# Altium footprint library 14-TSSOP.PcbLib: 4 footprints
Each footprint in its own frame and in the unit in brackets; x right, y up, seen from the top. Pads: shape width x height; smd on the part's side, far side on the other; paste and mask are expansions set on the pad; w line width, h text height; cw(c..) or ccw(c..) is an arc to the next point about the centre after c.
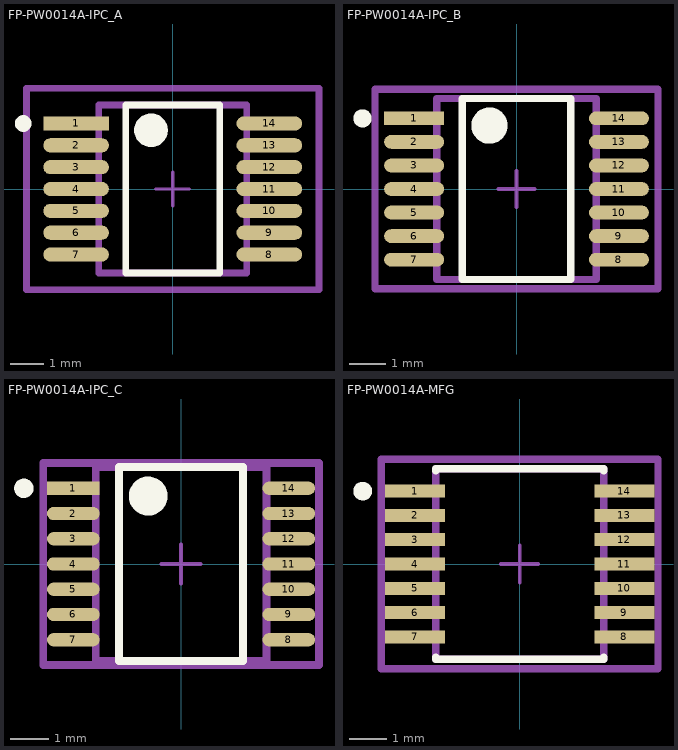
[diagram p0: the footprints below, top view; thin cyan lines are the x and y axes]

## FP-PW0014A-IPC_A [mm]
pads (14):
  rect 1.955x0.421 smd paste+0 mask+0: 1(-2.875,1.95)
  rrect100% 1.955x0.421 smd paste+0 mask+0: 2(-2.875,1.3) 3(-2.875,0.65) 4(-2.875,0) 5(-2.875,-0.65) 6(-2.875,-1.3) 7(-2.875,-1.95) 8(2.875,-1.95) 9(2.875,-1.3) 10(2.875,-0.65) 11(2.875,0) 12(2.875,0.65) 13(2.875,1.3) 14(2.875,1.95)
Top Overlay:
  circle w0.5: c-0.648,1.75 r0.25
  circle w0.25: c-4.45,1.95 r0.125
  lines w0.2: -1.398,-2.5 1.398,-2.5 1.398,2.5 -1.398,2.5 -1.398,-2.5
Mechanical 5:
  lines w0.2: -4.353,-3 4.353,-3 4.353,3 -4.353,3 -4.353,-3
  text ".Designator" at 0,0.188 h1
Mechanical 13:
  lines w0.2: -2.2,-2.5 2.2,-2.5 2.2,2.5 -2.2,2.5 -2.2,-2.5
Mechanical 15:
  lines w0.2: -4.353,-3 4.353,-3 4.353,3 -4.353,3 -4.353,-3
Mechanical 16:
  lines w0.1: -0.5,0 0.5,0 ; 0,-0.5 0,0.5
3D body "IC_Texas_Instruments_BQ34110PWR_eec.STEP": height 0.25, standoff 0, extent -4.353,-3 4.353,3

## FP-PW0014A-IPC_B [mm]
pads (14):
  rect 1.655x0.381 smd paste+0 mask+0: 1(-2.825,1.95)
  rrect100% 1.655x0.381 smd paste+0 mask+0: 2(-2.825,1.3) 3(-2.825,0.65) 4(-2.825,0) 5(-2.825,-0.65) 6(-2.825,-1.3) 7(-2.825,-1.95) 8(2.825,-1.95) 9(2.825,-1.3) 10(2.825,-0.65) 11(2.825,0) 12(2.825,0.65) 13(2.825,1.3) 14(2.825,1.95)
Top Overlay:
  circle w0.5: c-0.748,1.75 r0.25
  circle w0.25: c-4.25,1.95 r0.125
  lines w0.2: -1.498,-2.5 1.498,-2.5 1.498,2.5 -1.498,2.5 -1.498,-2.5
Mechanical 5:
  lines w0.2: -3.903,-2.75 3.903,-2.75 3.903,2.75 -3.903,2.75 -3.903,-2.75
  text ".Designator" at 0,0.188 h1
Mechanical 13:
  lines w0.2: -2.2,-2.5 2.2,-2.5 2.2,2.5 -2.2,2.5 -2.2,-2.5
Mechanical 15:
  lines w0.2: -3.903,-2.75 3.903,-2.75 3.903,2.75 -3.903,2.75 -3.903,-2.75
Mechanical 16:
  lines w0.1: -0.5,0 0.5,0 ; 0,-0.5 0,0.5
3D body "IC_Texas_Instruments_BQ34110PWR_eec.STEP": height 0.25, standoff 0, extent -3.903,-2.75 3.903,2.75

## FP-PW0014A-IPC_C [mm]
pads (14):
  rect 1.355x0.341 smd paste+0 mask+0: 1(-2.775,1.95)
  rrect100% 1.355x0.341 smd paste+0 mask+0: 2(-2.775,1.3) 3(-2.775,0.65) 4(-2.775,0) 5(-2.775,-0.65) 6(-2.775,-1.3) 7(-2.775,-1.95) 8(2.775,-1.95) 9(2.775,-1.3) 10(2.775,-0.65) 11(2.775,0) 12(2.775,0.65) 13(2.775,1.3) 14(2.775,1.95)
Top Overlay:
  circle w0.5: c-0.848,1.75 r0.25
  circle w0.25: c-4.05,1.95 r0.125
  lines w0.2: -1.598,-2.5 1.598,-2.5 1.598,2.5 -1.598,2.5 -1.598,-2.5
Mechanical 5:
  lines w0.2: -3.553,-2.6 3.553,-2.6 3.553,2.6 -3.553,2.6 -3.553,-2.6
  text ".Designator" at 0,0.188 h1
Mechanical 13:
  lines w0.2: -2.2,-2.5 2.2,-2.5 2.2,2.5 -2.2,2.5 -2.2,-2.5
Mechanical 15:
  lines w0.2: -3.553,-2.6 3.553,-2.6 3.553,2.6 -3.553,2.6 -3.553,-2.6
Mechanical 16:
  lines w0.1: -0.5,0 0.5,0 ; 0,-0.5 0,0.5
3D body "IC_Texas_Instruments_BQ34110PWR_eec.STEP": height 0.25, standoff 0, extent -3.553,-2.6 3.553,2.6

## FP-PW0014A-MFG [mm]
pads (14):
  rect 1.6x0.35 smd paste-1000 mask+0: 1(-2.8,1.95) 2(-2.8,1.3) 3(-2.8,0.65) 4(-2.8,0) 5(-2.8,-0.65) 6(-2.8,-1.3) 7(-2.8,-1.95) 8(2.8,-1.95) 9(2.8,-1.3) 10(2.8,-0.65) 11(2.8,0) 12(2.8,0.65) 13(2.8,1.3) 14(2.8,1.95)
Top Overlay:
  circle w0.25: c-4.2,1.95 r0.125
  lines w0.2: -2.25,-2.5 -2.25,-2.55 2.25,-2.55 2.25,-2.5 ; -2.25,2.5 -2.25,2.55 2.25,2.55 2.25,2.5
Top Paste:
  rectangle: 2.025,1.8 3.575,2.1
  rectangle: 2.025,1.15 3.575,1.45
  rectangle: 2.025,0.5 3.575,0.8
  rectangle: 2.025,-0.15 3.575,0.15
  rectangle: 2.025,-0.8 3.575,-0.5
  rectangle: 2.025,-1.45 3.575,-1.15
  rectangle: 2.025,-2.1 3.575,-1.8
  rectangle: -3.575,1.8 -2.025,2.1
  rectangle: -3.575,1.15 -2.025,1.45
  rectangle: -3.575,0.5 -2.025,0.8
  rectangle: -3.575,-0.15 -2.025,0.15
  rectangle: -3.575,-0.8 -2.025,-0.5
  rectangle: -3.575,-1.45 -2.025,-1.15
  rectangle: -3.575,-2.1 -2.025,-1.8
Mechanical 5:
  lines w0.2: -3.7,-2.8 3.7,-2.8 3.7,2.8 -3.7,2.8 -3.7,-2.8
  text ".Designator" at 0,0.188 h1
Mechanical 13:
  lines w0.2: -2.25,-2.55 2.25,-2.55 2.25,2.55 -2.25,2.55 -2.25,-2.55
Mechanical 15:
  lines w0.2: -3.7,-2.8 3.7,-2.8 3.7,2.8 -3.7,2.8 -3.7,-2.8
Mechanical 16:
  lines w0.1: -0.5,0 0.5,0 ; 0,-0.5 0,0.5
3D body "IC_Texas_Instruments_BQ34110PWR_eec.STEP": height 0.25, standoff 0, extent -3.7,-2.8 3.7,2.8